# Altium footprint library NRF24L01_module.PcbLib: 2 footprints
Each footprint in its own frame and in the unit in brackets; x right, y up, seen from the top. Pads: shape width x height; smd on the part's side, far side on the other; paste and mask are expansions set on the pad; w line width, h text height; cw(c..) or ccw(c..) is an arc to the next point about the centre after c.
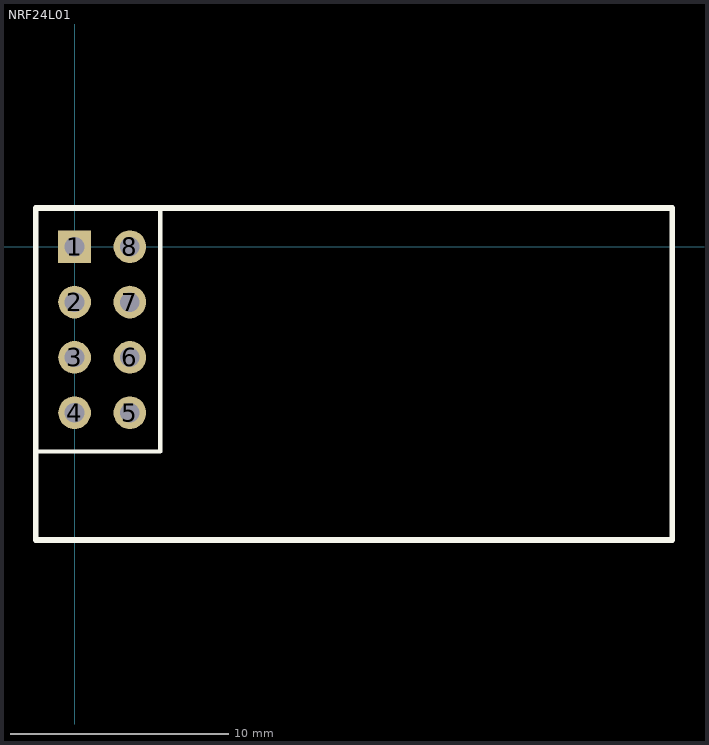
[diagram p0: the footprints below, top view; thin cyan lines are the x and y axes]

## NRF24L01 [mm]
pads (8):
  rect 1.5x1.5 hole 0.9: 1(0,0)
  round 1.5 hole 0.9: 2(0,-2.54) 3(0,-5.08) 4(0,-7.62) 5(2.54,-7.62) 6(2.54,-5.08) 7(2.54,-2.54) 8(2.54,0)
Top Overlay:
  lines w0.2: 0.635,1.778 3.937,1.778 3.937,-9.398 -1.778,-9.398 -1.778,1.778 1.905,1.778
  lines w0.254: -1.778,-13.462 27.432,-13.462 27.432,1.778 3.937,1.778 -1.778,1.778 -1.778,-13.462
3D body "User Library-MY-NRF24L01P.STEP": height 14.7, standoff -0.21, extent -1.651,-13.342 27.349,1.658

## PCBComponent_1 [mm]